# Altium footprint library PcbLib1.PcbLib: 5 footprints
Each footprint in its own frame and in the unit in brackets; x right, y up, seen from the top. Pads: shape width x height; smd on the part's side, far side on the other; paste and mask are expansions set on the pad; w line width, h text height; cw(c..) or ccw(c..) is an arc to the next point about the centre after c.
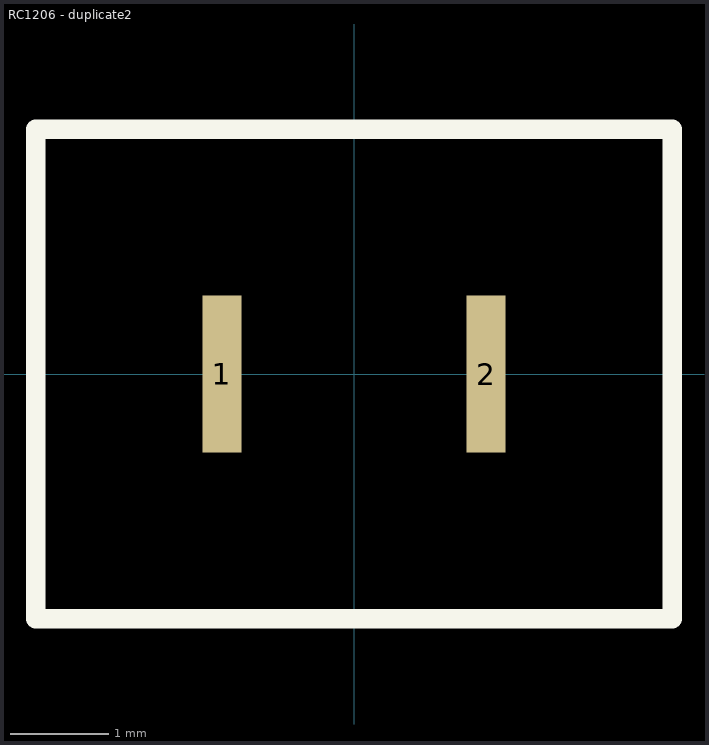
[diagram p0: the footprints below, top view; thin cyan lines are the x and y axes]

## PCBComponent_1 [mm]

## RC1206 [mm]

## RC1206 - duplicate [mm]

## RC1206 - duplicate1 [mm]

## RC1206 - duplicate2 [mm]
pads (2):
  rect 0.4x1.6 smd: 1(-1.35,0) 2(1.35,0)
Top Overlay:
  lines w0.2: -3.25,-2.5 3.25,-2.5 3.25,2.5 -3.25,2.5 -3.25,0 -3.25,-2.5